# Altium schematic symbol library LongPinData.SchLib: 1 symbol
Pins are listed as number, name and electrical type; pins without a type are passive.

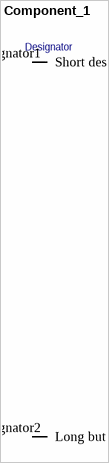
[diagram p0: symbol Component_1]

## Component_1
designator Designator  (value not drawn)
This is a component that has very long pin names
pins: designator1 Short designator, long name: Lorem ipsum dolor sit amet, consectetur adipiscing elit. In vel enim vitae urna congue aliquet ut vel lacus. Aliquam in ipsum eu nibh maximus viverra ut a ipsum. Phasellus arcu velit, elementum sit amet erat eu, suscipit condimentum ipsum. Curabitur vitae dui nunc. Sed id ultrices nisi, id semper orci. Integer vel ex eget orci feugiat interdum at congue ante. Aenean in risus eu mi bibendum maximus in a urna. Proin tempus bibendum nisl. Praesent bibendum ac nulla ut porta. Nulla ut tortor lacinia, tincidunt libero ac, semper mi. Nulla iaculis feugiat nisi ultrices ullamcorper. Nunc tortor nisl, venenatis quis porttitor eu, semper sed mauris. Maecenas a sapien sit amet odio dapibus aliquam eu nec metus. Nulla malesuada nibh id finibus ornare. Phasellus augue massa, luctus eget tortor a, feugiat euismod mauris. In posuere mauris sem, at porttitor ex malesuada mattis. Aenean congue condimentum odio vitae ultricies. Phasellus non auctor lacus. Etiam ac ligula velit. Integer eleifend fringilla ipsum eu pellentesque. Cras tortor dolor, pharetra et lectus nec, iaculis condimentum purus. Praesent aliquet, sem ac vestibulum ultrices, metus lacus ornare purus, tristique elementum quam magna at arcu. Praesent ac venenatis lorem, vitae facilisis libero. Aliquam iaculis neque ut ligula gravida, id volutpat quam imperdiet. Aliquam erat volutpat. Etiam tristique vehicula ex quis sagittis. Vivamus iaculis molestie posuere. Curabitur dictum, tortor in posuere volutpat, ex massa congue enim, vitae lobortis lorem tellus a est. In mattis non augue tristique fermentum. Lorem ipsum dolor sit amet, consectetur adipiscing elit. Orci varius natoque penatibus et magnis dis parturient montes, nascetur ridiculus mus. Vestibulum ante ipsum primis in faucibus orci luctus et ultrices posuere cubilia curae; Suspendisse nec condimentum massa. Vivamus vel iaculis diam. Sed interdum ligula eget urna elementum, dignissim tincidunt erat euismod. Phasellus bibendum ex turpis.Lorem ipsum dolor sit amet, consectetur adipiscing elit. Orci varius natoque penatibus et magnis dis parturient montes, nascetur ridiculus mus. Vestibulum ante ipsum primis in faucibus orci luctus et ultrices posuere cubilia curae; Suspendisse nec condimentum massa. Vivamus vel iaculis diam. Sed interdum ligula eget urna elementum, dignissim tincidunt erat euismod. Phasellus bibendum ex turpis.Lorem ipsum dolor sit amet, consectetur adipiscing elit. Orci varius natoque penatibus et magnis dis parturient montes, nascetur ridiculus mus. Vestibulum ante ipsum primis in faucibus orci luctus et ultrices posuere cubilia curae; Suspendisse nec condimentum massa. Vivamus vel iaculis diam. Sed interdum ligula eget urna elementum, dignissim tincidunt erat euismod. Phasellus bibendum ex turpis. Lorem ipsum dolor sit amet, consectetur adipiscing elit. Orci varius natoque penatibus et magnis dis parturient montes, nascetur ridiculus mus. Vestibulum ante ipsum primis in faucibus orci luctus et ultrices posuere cubilia curae; Suspendisse nec condimentum massa. Vivamus vel iaculis diam. Sed interdum ligula eget urna elementum, dignissim tincidunt erat euismod. Phasellus bibendum ex turpis. Donec consequat turpis fermentum orci finibus placerat. Aliquam ante turpis, hendrerit vel suscipit sed, cursus vel sem. Suspendisse consequat varius leo, vitae egestas purus elementum ut. Nulla dui nisi, interdum vel pulvinar et, tempus a mauris. Vivamus eu tellus odio. Aliquam erat volutpat. Phasellus congue velit nec sapien ultricies, dictum ullamcorper purus scelerisque. Morbi pulvinar vestibulum placerat. Vivamus eget sollicitudin erat, non tincidunt risus. Etiam id mattis lectus, quis venenatis nibh. Sed sit amet ligula quis turpis vestibulum viverra quis ultricies lorem. In commodo purus lorem, eget consectetur ipsum tempor nec. Aliquam a felis ultrices, varius quam a, dapibus leo. Vestibulum ornare, dui ac auctor ultrices, nunc nisi sodales dui, et viverra nulla tortor placerat mi. Etiam lorem nisl, tempor non lobortis at, lacinia sit amet urna. Mauris quis mattis nibh. Class aptent taciti sociosqu ad litora torquent per conubia nostra, per inceptos himenaeos. Mauris dictum, eros vitae sagittis faucibus, mauris nulla imperdiet nisl, sit amet dictum orci neque id nulla. Suspendisse molestie, erat ac vulputate accumsan, mi ex elementum sem, imperdiet porta massa dui dignissim lacus.Etiam id mattis lectus, quis venenatis nibh. Sed sit amet ligula quis turpis vestibulum viverra quis ultricies lorem. In commodo purus lorem, eget consectetur ipsum tempor nec. Aliquam a felis ultrices, varius quam a, dapibus leo. Vestibulum ornare, dui ac auctor ultrices, nunc nisi sodales dui, et viverra nulla tortor placerat mi. Etiam lorem nisl, tempor non lobortis at, lacinia sit amet urna. Mauris quis mattis nibh. Class aptent taciti sociosqu ad litora torquent per conubia nostra, per inceptos himenaeos. Mauris dictum, eros vitae sagittis faucibus, mauris nulla imperdiet nisl, sit amet dictum orci neque id nulla. Suspendisse molestie, erat ac vulputate accumsan, mi ex elementum sem, imperdiet porta massa dui dignissim lacus.Etiam id mattis lectus, quis venenatis nibh. Sed sit amet ligula quis turpis vestibulum viverra quis ultricies lorem. In commodo purus lorem, eget consectetur ipsum tempor nec. Aliquam a felis ultrices, varius quam a, dapibus leo. Vestibulum ornare, dui ac auctor ultrices, nunc nisi sodales dui, et viverra nulla tortor placerat mi. Etiam lorem nisl, tempor non lobortis at, lacinia sit amet urna. Mauris quis mattis nibh. Class aptent taciti sociosqu ad litora torquent per conubia nostra, per inceptos himenaeos. Mauris dictum, eros vitae sagittis faucibus, mauris nulla imperdiet nisl, sit amet dictum orci neque id nulla. Suspendisse molestie, erat ac vulputate accumsan, mi ex elementum sem, imperdiet porta massa dui dignissim lacus.Etiam id mattis lectus, quis venenatis nibh. Sed sit amet ligula quis turpis vestibulum viverra quis ultricies lorem. In commodo purus lorem, eget consectetur ipsum tempor nec. Aliquam a felis ultrices, varius quam a, dapibus leo. Vestibulum ornare, dui ac auctor ultrices, nunc nisi sodales dui, et viverra nulla tortor placerat mi. Etiam lorem nisl, tempor non lobortis at, lacinia sit amet urna. Mauris quis mattis nibh. Class aptent taciti sociosqu ad litora torquent per conubia nostra, per inceptos himenaeos. Mauris dictum, eros vitae sagittis faucibus, mauris nulla imperdiet nisl, sit amet dictum orci neque id nulla. Suspendisse molestie, erat ac vulputate accumsan, mi ex elementum sem, imperdiet porta massa dui dignissim lacus.Etiam id mattis lectus, quis venenatis nibh. Sed sit amet ligula quis turpis vestibulum viverra quis ultricies lorem. In commodo purus lorem, eget consectetur ipsum tempor nec. Aliquam a felis ultrices, varius quam a, dapibus leo. Vestibulum ornare, dui ac auctor ultrices, nunc nisi sodales dui, et viverra nulla tortor placerat mi. Etiam lorem nisl, tempor non lobortis at, lacinia sit amet urna. Mauris quis mattis nibh. Class aptent taciti sociosqu ad litora torquent per conubia nostra, per inceptos himenaeos. Mauris dictum, eros vitae sagittis faucibus, mauris nulla imperdiet nisl, sit amet dictum orci neque id nulla. Suspendisse molestie, erat ac vulputate accumsan, mi ex elementum sem, imperdiet porta massa dui dignissim lacus.Etiam id mattis lectus, quis venenatis nibh. Sed sit amet ligula quis turpis vestibulum viverra quis ultricies lorem. In commodo purus lorem, eget consectetur ipsum tempor nec. Aliquam a felis ultrices, varius quam a, dapibus leo. Vestibulum ornare, dui ac auctor ultrices, nunc nisi sodales dui, et viverra nulla tortor placerat mi. Etiam lorem nisl, tempor non lobortis at, lacinia sit amet urna. Mauris quis mattis nibh. Class aptent taciti sociosqu ad litora torquent per conubia nostra, per inceptos himenaeos. Mauris dictum, eros vitae sagittis faucibus, mauris nulla imperdiet nisl, sit amet dictum orci neque id nulla. Suspendisse molestie, erat ac vulputate accumsan, mi ex elementum sem, imperdiet porta massa dui dignissim lacus.Etiam id mattis lectus, quis venenatis nibh. Sed sit amet ligula quis turpis vestibulum viverra quis ultricies lorem. In commodo purus lorem, eget consectetur ipsum tempor nec. Aliquam a felis ultrices, varius quam a, dapibus leo. Vestibulum ornare, dui ac auctor ultrices, nunc nisi sodales dui, et viverra nulla tortor placerat mi. Etiam lorem nisl, tempor non lobortis at, lacinia sit amet urna. Mauris quis mattis nibh. Class aptent taciti sociosqu ad litora torquent per conubia nostra, per inceptos himenaeos. Mauris dictum, eros vitae sagittis faucibus, mauris nulla imperdiet nisl, sit amet dictum orci neque id nulla. Suspendisse molestie, erat ac vulputate accumsan, mi ex elementum sem, imperdiet porta massa dui dignissim lacus.Etiam id mattis lectus, quis venenatis nibh. Sed sit amet ligula quis turpis vestibulum viverra quis ultricies lorem. In commodo purus lorem, eget consectetur ipsum tempor nec. Aliquam a felis ultrices, varius quam a, dapibus leo. Vestibulum ornare, dui ac auctor ultrices, nunc nisi sodales dui, et viverra nulla tortor placerat mi. Etiam lorem nisl, tempor non lobortis at, lacinia sit amet urna. Mauris quis mattis nibh. Class aptent taciti sociosqu ad litora torquent per conubia nostra, per inceptos himenaeos. Mauris dictum, eros vitae sagittis faucibus, mauris nulla imperdiet nisl, sit amet dictum orci neque id nulla. Suspendisse molestie, erat ac vulputate accumsan, mi ex elementum sem, imperdiet porta massa dui dignissim lacus.Etiam id mattis lectus, quis venenatis nibh. Sed sit amet ligula quis turpis vestibulum viverra quis ultricies lorem. In commodo purus lorem, eget consectetur ipsum tempor nec. Aliquam a felis ultrices, varius quam a, dapibus leo. Vestibulum ornare, dui ac auctor ultrices, nunc nisi sodales dui, et viverra nulla tortor placerat mi. Etiam lorem nisl, tempor non lobortis at, lacinia sit amet urna. Mauris quis mattis nibh. Class aptent taciti sociosqu ad litora torquent per conubia nostra, per inceptos himenaeos. Mauris dictum, eros vitae sagittis faucibus, mauris nulla imperdiet nisl, sit amet dictum orci neque id nulla. Suspendisse molestie, erat ac vulputate accumsan, mi ex elementum sem, imperdiet porta massa dui dignissim lacus.Etiam id mattis lectus, quis venenatis nibh. Sed sit amet ligula quis turpis vestibulum viverra quis ultricies lorem. In commodo purus lorem, eget consectetur ipsum tempor nec. Aliquam a felis ultrices, varius quam a, dapibus leo. Vestibulum ornare, dui ac auctor ultrices, nunc nisi sodales dui, et viverra nulla tortor placerat mi. Etiam lorem nisl, tempor non lobortis at, lacinia sit amet urna. Mauris quis mattis nibh. Class aptent taciti sociosqu ad litora torquent per conubia nostra, per inceptos himenaeos. Mauris dictum, eros vitae sagittis faucibus, mauris nulla imperdiet nisl, sit amet dictum orci neque id nulla. Suspendisse molestie, erat ac vulputate accumsan, mi ex elementum sem, imperdiet porta massa dui dignissim lacus.Etiam id mattis lectus, quis venenatis nibh. Sed sit amet ligula quis turpis vestibulum viverra quis ultricies lorem. In commodo purus lorem, eget consectetur ipsum tempor nec. Aliquam a felis ultrices, varius quam a, dapibus leo. Vestibulum ornare, dui ac auctor ultrices, nunc nisi sodales dui, et viverra nulla tortor placerat mi. Etiam lorem nisl, tempor non lobortis at, lacinia sit amet urna. Mauris quis mattis nibh. Class aptent taciti sociosqu ad litora torquent per conubia nostra, per inceptos himenaeos. Mauris dictum, eros vitae sagittis faucibus, mauris nulla imperdiet nisl, sit amet dictum orci neque id nulla. Suspendisse molestie, erat ac vulputate accumsan, mi ex elementum sem, imperdiet porta massa dui dignissim lacus.Etiam id mattis lectus, quis venenatis nibh. Sed sit amet ligula quis turpis vestibulum viverra quis ultricies lorem. In commodo purus lorem, eget consectetur ipsum tempor nec. Aliquam a felis ultrices, varius quam a, dapibus leo. Vestibulum ornare, dui ac auctor ultrices, nunc nisi sodales dui, et viverra nulla tortor placerat mi. Etiam lorem nisl, tempor non lobortis at, lacinia sit amet urna. Mauris quis mattis nibh. Class aptent taciti sociosqu ad litora torquent per conubia nostra, per inceptos himenaeos. Mauris dictum, eros vitae sagittis faucibus, mauris nulla imperdiet nisl, sit amet dictum orci neque id nulla. Suspendisse molestie, erat ac vulputate accumsan, mi ex elementum sem, imperdiet porta massa dui dignissim lacus., designator2 Long but only a bit over 255: Lorem ipsum dolor sit amet, consectetur adipiscing elit. Morbi et facilisis erat, id fringilla magna. Pellentesque vel sapien consequat, accumsan risus iaculis, aliquam felis. Morbi sit amet leo ac ex mattis faucibus. Curabitur fringilla tellus in aenean.